# EAGLE library part AD8476 (library Opamps)
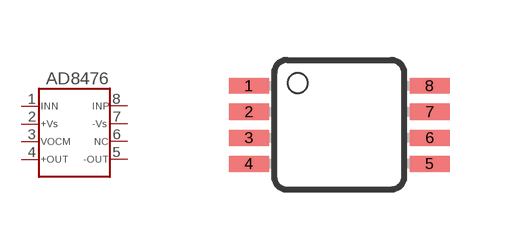
[diagram p2: symbol with the pads of MSOP8; footprint MSOP8]

Designator prefix U

## AD8476  [MSOP8]
1  1  in
2  2  in
3  3  in
4  4  out
5  5  out
6  6  nc
7  7  in
8  8  in

## Footprint MSOP8 (pad centres in mm)
smd 1 x 0.4: 1 -2.263,0.976; 2 -2.263,0.326; 3 -2.263,-0.324; 4 -2.263,-0.974; 5 2.262,-0.974; 6 2.262,-0.324; 7 2.262,0.326; 8 2.262,0.976